# EAGLE library part HT12D (library MCE_CircuitosIntegrados)
Decoder
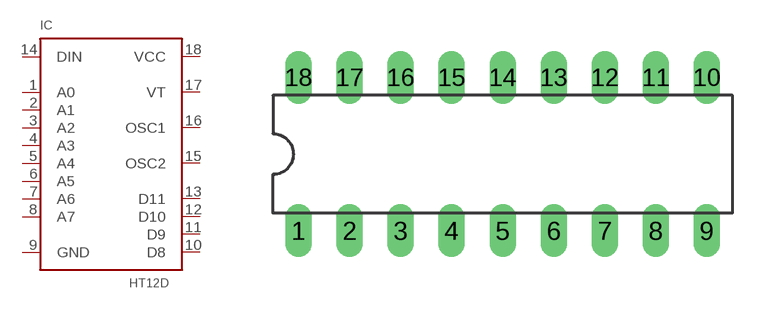
[diagram p1: symbol with the pads of DIL18; footprint DIL18]

Designator prefix IC

## HT12D"  [DIL18]
1  A0  pwr
2  A1  pwr
3  A2  pwr
4  A3  pwr
5  A4  pwr
6  A5  pwr
7  A6  pwr
8  A7  pwr
9  GND  pwr
10  D8  out
11  D9  out
12  D10  out
13  D11  out
14  DIN  in
15  OSC2
16  OSC1
17  VT  nc
18  VCC  pwr

## Footprint DIL18 (pad centres in mm)
Dual In Line Package
drill 0.813 long: 1 -10.16,-3.81; 2 -7.62,-3.81; 3 -5.08,-3.81; 4 -2.54,-3.81; 5 0,-3.81; 6 2.54,-3.81; 7 5.08,-3.81; 8 7.62,-3.81; 9 10.16,-3.81; 10 10.16,3.81; 11 7.62,3.81; 12 5.08,3.81; 13 2.54,3.81; 14 0,3.81; 15 -2.54,3.81; 16 -5.08,3.81; 17 -7.62,3.81; 18 -10.16,3.81